# EAGLE library part FT245BREAKOUT (library lighting_ctl_ft245)
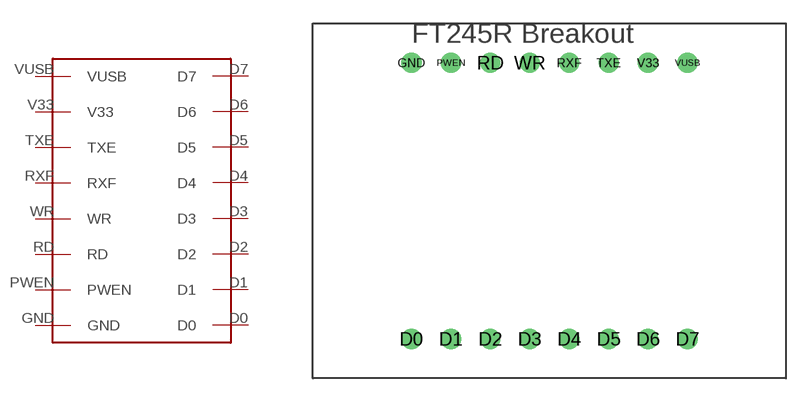
[diagram p1: symbol with the pads of FT245BREAKOUT; footprint FT245BREAKOUT]

Designator prefix -

## FT245BREAKOUT  [FT245BREAKOUT]
D0  D0
D1  D1
D2  D2
D3  D3
D4  D4
D5  D5
D6  D6
D7  D7
GND  GND
PWEN  PWEN
RD  RD
RXF  RXF
TXE  TXE
V33  V33
VUSB  VUSB
WR  WR

## Footprint FT245BREAKOUT (pad centres in mm)
drill 0.8 round: D0 -8.89,-8.89; D1 -6.35,-8.89; D2 -3.81,-8.89; D3 -1.27,-8.89; D4 1.27,-8.89; D5 3.81,-8.89; D6 6.35,-8.89; D7 8.89,-8.89; GND -8.89,8.89; PWEN -6.35,8.89; RD -3.81,8.89; RXF 1.27,8.89; TXE 3.81,8.89; V33 6.35,8.89; VUSB 8.89,8.89; WR -1.27,8.89